# Altium schematic symbol library LoRaE220-900m30s.SchLib: 1 symbol
Pins are listed as number, name and electrical type; pins without a type are passive.

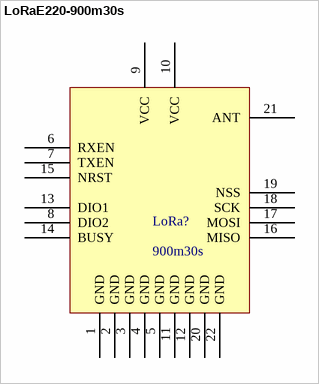
[diagram p0: symbol LoRaE220-900m30s]

## LoRaE220-900m30s
designator LoRa?, comment 900m30s
1W module developed independently based on new generation of LoRa RF chip LLCC68 from Semtech. LLCC68 is suitable for 868MHz/915MHz
footprint PE220-900M30S (38.5mm*24mm*3.8mm-S)
pins: 1 GND, 2 GND, 3 GND, 4 GND, 5 GND, 6 RXEN, 7 TXEN, 8 DIO2, 9 VCC, 10 VCC, 11 GND, 12 GND, 13 DIO1, 14 BUSY, 15 NRST, 16 MISO, 17 MOSI, 18 SCK, 19 NSS, 20 GND, 21 ANT, 22 GND